# Altium schematic symbol library mylib.SchLib: 96 symbols
Pins are listed as number, name and electrical type; pins without a type are passive.

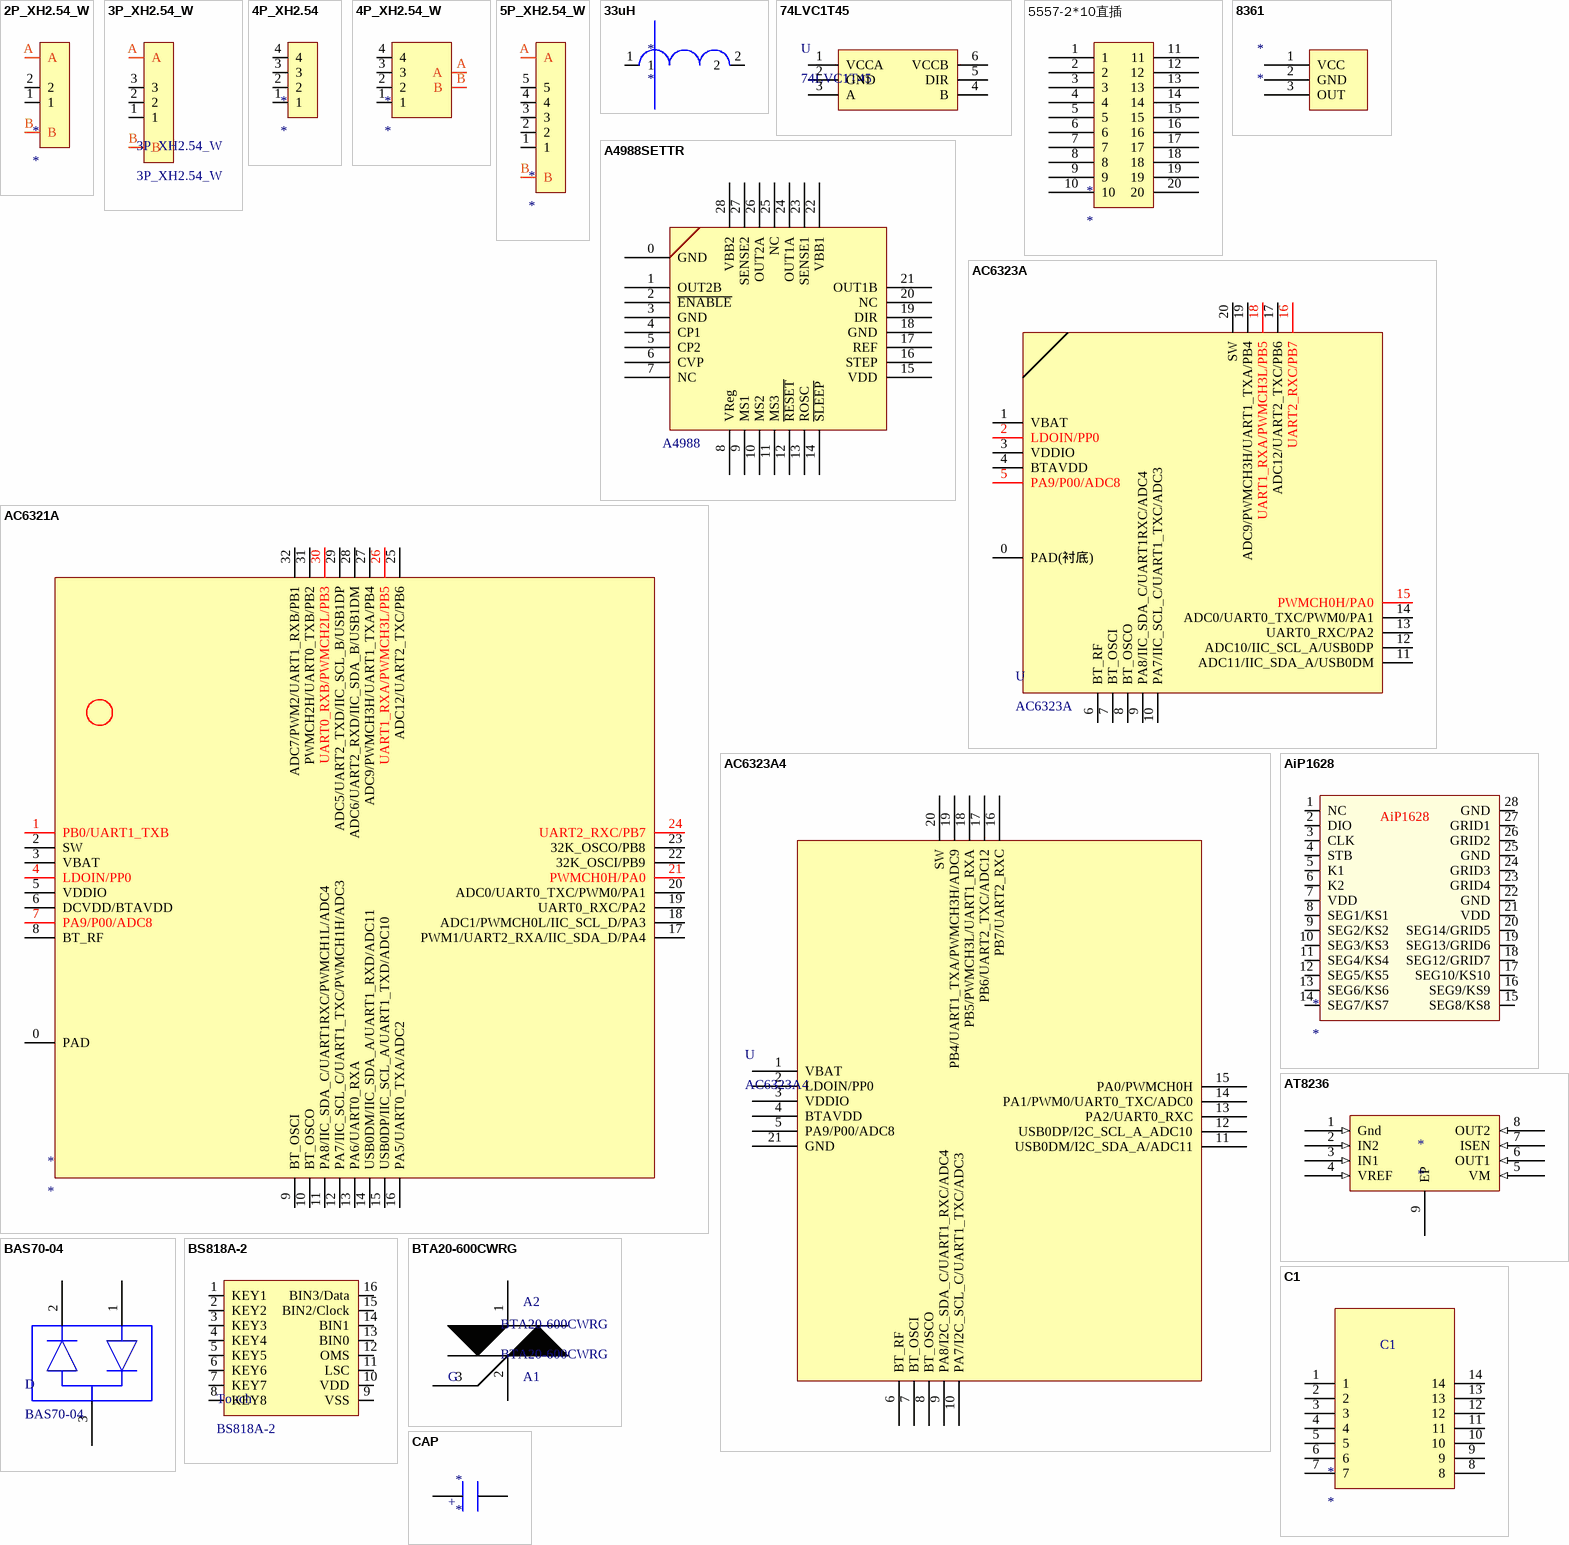
[diagram p0: symbols 2P_XH2.54_W to CAP]

## 2P_XH2.54_W
designator *
pins: 1, 2, A, B

## 3P_XH2.54_W
designator 3P_XH2.54_W
pins: 1, 2, 3, A, B

## 4P_XH2.54
designator *
pins: 1, 2, 3, 4

## 4P_XH2.54_W
designator *
pins: 1, 2, 3, 4, A, B

## 5P_XH2.54_W
designator *
pins: 1, 2, 3, 4, 5, A, B

## 33uH
designator *
pins: 1, 2

## 74LVC1T45
designator U
pins: 1 VCCA, 2 GND, 3 A, 4 B, 5 DIR, 6 VCCB

## 5557-2*10直插
designator *
pins: 1, 2, 3, 4, 5, 6, 7, 8, 9, 10, 11, 12, 13, 14, 15, 16, 17, 18, 19, 20

## 8361
designator *
pins: 1 VCC, 2 GND, 3 OUT

## A4988SETTR
designator ?, comment A4988
pins: 0 GND, 1 OUT2B, 2 ~{ENABLE}, 3 GND, 4 CP1, 5 CP2, 6 CVP, 7 NC, 8 VReg, 9 MS1, 10 MS2, 11 MS3, 12 ~{RESET}, 13 ROSC, 14 ~{SLEEP}, 15 VDD, 16 STEP, 17 REF, 18 GND, 19 DIR, 20 NC, 21 OUT1B, 22 VBB1, 23 SENSE1, 24 OUT1A, 25 NC, 26 OUT2A, 27 SENSE2, 28 VBB2

## AC6321A
designator *
pins: 0 PAD, 1 PB0/UART1_TXB, 2 SW, 3 VBAT, 4 LDOIN/PP0, 5 VDDIO, 6 DCVDD/BTAVDD, 7 PA9/P00/ADC8, 8 BT_RF, 9 BT_OSCI, 10 BT_OSCO, 11 PA8/IIC_SDA_C/UART1RXC/PWMCH1L/ADC4, 12 PA7/IIC_SCL_C/UART1_TXC/PWMCH1H/ADC3, 13 PA6/UART0_RXA, 14 USB0DM/IIC_SDA_A/UART1_RXD/ADC11, 15 USB0DP/IIC_SCL_A/UART1_TXD/ADC10, 16 PA5/UART0_TXA/ADC2, 17 PWM1/UART2_RXA/IIC_SDA_D/PA4, 18 ADC1/PWMCH0L/IIC_SCL_D/PA3, 19 UART0_RXC/PA2, 20 ADC0/UART0_TXC/PWM0/PA1, 21 PWMCH0H/PA0, 22 32K_OSCI/PB9, 23 32K_OSCO/PB8, 24 UART2_RXC/PB7, 25 ADC12/UART2_TXC/PB6, 26 UART1_RXA/PWMCH3L/PB5, 27 ADC9/PWMCH3H/UART1_TXA/PB4, 28 ADC6/UART2_RXD/IIC_SDA_B/USB1DM, 29 ADC5/UART2_TXD/IIC_SCL_B/USB1DP, 30 UART0_RXB/PWMCH2L/PB3, 31 PWMCH2H/UART0_TXB/PB2, 32 ADC7/PWM2/UART1_RXB/PB1

## AC6323A
designator U
pins: 0 PAD(衬底), 1 VBAT, 2 LDOIN/PP0, 3 VDDIO, 4 BTAVDD, 5 PA9/P00/ADC8, 6 BT_RF, 7 BT_OSCI, 8 BT_OSCO, 9 PA8/IIC_SDA_C/UART1RXC/ADC4, 10 PA7/IIC_SCL_C/UART1_TXC/ADC3, 11 ADC11/IIC_SDA_A/USB0DM, 12 ADC10/IIC_SCL_A/USB0DP, 13 UART0_RXC/PA2, 14 ADC0/UART0_TXC/PWM0/PA1, 15 PWMCH0H/PA0, 16 UART2_RXC/PB7, 17 ADC12/UART2_TXC/PB6, 18 UART1_RXA/PWMCH3L/PB5, 19 ADC9/PWMCH3H/UART1_TXA/PB4, 20 SW

## AC6323A4
designator U
pins: 1 VBAT, 2 LDOIN/PP0, 3 VDDIO, 4 BTAVDD, 5 PA9/P00/ADC8, 6 BT_RF, 7 BT_OSCI, 8 BT_OSCO, 9 PA8/I2C_SDA_C/UART1_RXC/ADC4, 10 PA7/I2C_SCL_C/UART1_TXC/ADC3, 11 USB0DM/I2C_SDA_A/ADC11, 12 USB0DP/I2C_SCL_A_ADC10, 13 PA2/UART0_RXC, 14 PA1/PWM0/UART0_TXC/ADC0, 15 PA0/PWMCH0H, 16 PB7/UART2_RXC, 17 PB6/UART2_TXC/ADC12, 18 PB5/PWMCH3L/UART1_RXA, 19 PB4/UART1_TXA/PWMCH3H/ADC9, 20 SW, 21 GND "衬底"

## AiP1628
designator *
pins: 1 NC, 2 DIO, 3 CLK, 4 STB, 5 K1, 6 K2, 7 VDD, 8 SEG1/KS1, 9 SEG2/KS2, 10 SEG3/KS3, 11 SEG4/KS4, 12 SEG5/KS5, 13 SEG6/KS6, 14 SEG7/KS7, 15 SEG8/KS8, 16 SEG9/KS9, 17 SEG10/KS10, 18 SEG12/GRID7, 19 SEG13/GRID6, 20 SEG14/GRID5, 21 VDD, 22 GND, 23 GRID4, 24 GRID3, 25 GND, 26 GRID2, 27 GRID1, 28 GND

## AT8236
designator *
pins: 1 Gnd (in), 2 IN2 (in), 3 IN1 (in), 4 VREF (in), 5 VM (in), 6 OUT1 (in), 7 ISEN (in), 8 OUT2 (in), 9 EP

## BAS70-04
designator D
pins: 1, 2, 3

## BS818A-2
designator Touch
pins: 1 KEY1, 2 KEY2, 3 KEY3, 4 KEY4, 5 KEY5, 6 KEY6, 7 KEY7, 8 KEY8, 9 VSS, 10 VDD, 11 LSC, 12 OMS, 13 BIN0, 14 BIN1, 15 BIN2/Clock, 16 BIN3/Data

## BTA20-600CWRG
designator BTA20-600CWRG
pins: 1 A2, 2 A1, 3 G

## C1
designator *
pins: 1, 2, 3, 4, 5, 6, 7, 8, 9, 10, 11, 12, 13, 14

## CAP
designator *
pins: 1, 2
text: +

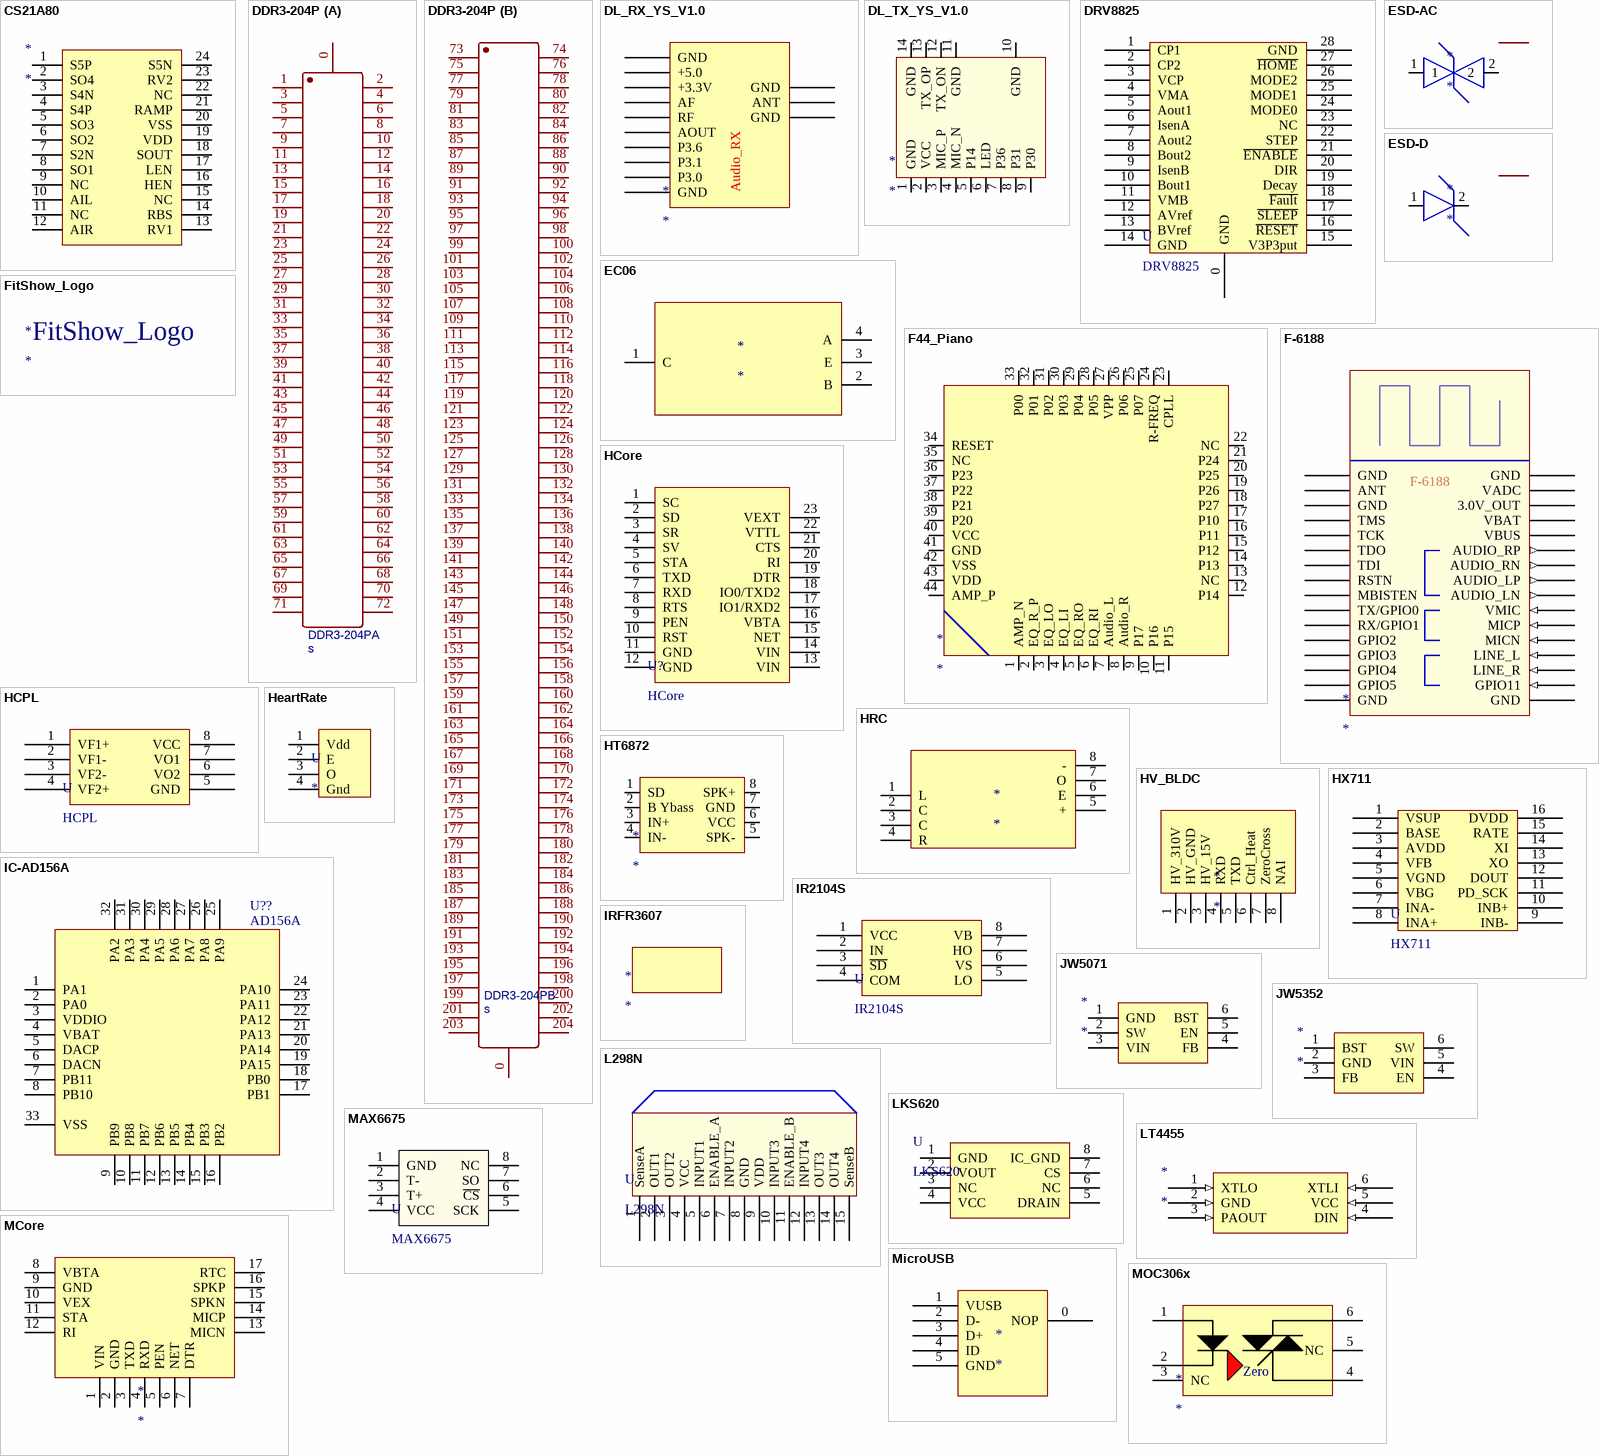
[diagram p1: symbols CS21A80 to MOC306x]

## CS21A80
designator *
pins: 1 S5P, 2 SO4, 3 S4N, 4 S4P, 5 SO3, 6 SO2, 7 S2N, 8 SO1, 9 NC, 10 AIL, 11 NC, 12 AIR, 13 RV1, 14 RBS, 15 NC, 16 HEN, 17 LEN, 18 SOUT, 19 VDD, 20 VSS, 21 RAMP, 22 NC, 23 RV2, 24 S5N

## DDR3-204P
designator DDR3-204P, comment s
BOM_Manufacturer: TE Connectivity; BOM_Manufacturer Part: 2013289-1; subpart_no: 1; BOM_Supplier: LCSC; BOM_Supplier Part: C305916; spicePre: C
footprint CHA-CARD-66.8X8.2-204
part A pins: 0, 1, 2, 3, 4, 5, 6, 7, 8, 9, 10, 11, 12, 13, 14, 15, 16, 17, 18, 19, 20, 21, 22, 23, 24, 25, 26, 27, 28, 29, 30, 31, 32, 33, 34, 35, 36, 37, 38, 39, 40, 41, 42, 43, 44, 45, 46, 47, 48, 49, 50, 51, 52, 53, 54, 55, 56, 57, 58, 59, 60, 61, 62, 63, 64, 65, 66, 67, 68, 69, 70, 71, 72
part B pins: 0, 73, 74, 75, 76, 77, 78, 79, 80, 81, 82, 83, 84, 85, 86, 87, 88, 89, 90, 91, 92, 93, 94, 95, 96, 97, 98, 99, 100, 101, 102, 103, 104, 105, 106, 107, 108, 109, 110, 111, 112, 113, 114, 115, 116, 117, 118, 119, 120, 121, 122, 123, 124, 125, 126, 127, 128, 129, 130, 131, 132, 133, 134, 135, 136, 137, 138, 139, 140, 141, 142, 143, 144, 145, 146, 147, 148, 149, 150, 151, 152, 153, 154, 155, 156, 157, 158, 159, 160, 161, 162, 163, 164, 165, 166, 167, 168, 169, 170, 171, 172, 173, 174, 175, 176, 177, 178, 179, 180, 181, 182, 183, 184, 185, 186, 187, 188, 189, 190, 191, 192, 193, 194, 195, 196, 197, 198, 199, 200, 201, 202, 203, 204

## DL_RX_YS_V1.0
designator *
pins: 1 GND, 2 +5.0, 3 +3.3V, 4 AF, 5 RF, 6 AOUT, 7 P3.6, 8 P3.1, 9 P3.0, 10 GND, 11 GND, 12 ANT, 13 GND
text: Audio_RX

## DL_TX_YS_V1.0
designator *
pins: 1 GND, 2 VCC, 3 MIC_P, 4 MIC_N, 5 P14, 6 LED, 7 P36, 8 P31, 9 P30, 10 GND, 11 GND, 12 TX_ON, 13 TX_OP, 14 GND

## DRV8825
designator U
pins: 0 GND, 1 CP1, 2 CP2, 3 VCP, 4 VMA, 5 Aout1, 6 IsenA, 7 Aout2, 8 Bout2, 9 IsenB, 10 Bout1, 11 VMB, 12 AVref, 13 BVref, 14 GND, 15 V3P3put, 16 ~{RESET}, 17 ~{SLEEP}, 18 ~{F}~{ault}, 19 Decay, 20 DIR, 21 ~{ENABLE}, 22 STEP, 23 NC, 24 MODE0, 25 MODE1, 26 MODE2, 27 ~{HOME}, 28 GND

## EC06
designator *
pins: 1 C, 2 B, 3 E, 4 A

## ESD-AC
designator *
pins: 1, 2

## ESD-D
designator *
pins: 1, 2

## F44_Piano
designator *
pins: 1 AMP_N, 2 EQ_R_P, 3 EQ_LO, 4 EQ_LI, 5 EQ_RO, 6 EQ_RI, 7 Audio_L, 8 Audio_R, 9 P17, 10 P16, 11 P15, 12 P14, 13 NC, 14 P13, 15 P12, 16 P11, 17 P10, 18 P27, 19 P26, 20 P25, 21 P24, 22 NC, 23 CPLL, 24 R-FREQ, 25 P07, 26 P06, 27 VPP, 28 P05, 29 P04, 30 P03, 31 P02, 32 P01, 33 P00, 34 RESET, 35 NC, 36 P23, 37 P22, 38 P21, 39 P20, 40 VCC, 41 GND, 42 VSS, 43 VDD, 44 AMP_P

## F-6188
designator *
pins: 1 GND, 2 ANT, 3 GND, 4 TMS, 5 TCK, 6 TDO, 7 TDI, 8 RSTN, 9 MBISTEN, 10 TX/GPIO0, 11 RX/GPIO1, 12 GPIO2, 13 GPIO3, 14 GPIO4, 15 GPIO5, 16 GND, 17 GND, 18 GPIO11 (in), 19 LINE_R (in), 20 LINE_L (in), 21 MICN (in), 22 MICP (in), 23 VMIC (in), 24 AUDIO_LN (out), 25 AUDIO_LP (out), 26 AUDIO_RN (out), 27 AUDIO_RP (out), 28 VBUS, 29 VBAT, 30 3.0V_OUT, 31 VADC, 32 GND

## FitShow_Logo
designator *

## HCore
designator U?
pins: 1 SC, 2 SD, 3 SR, 4 SV, 5 STA, 6 TXD, 7 RXD, 8 RTS, 9 PEN, 10 RST, 11 GND, 12 GND, 13 VIN, 14 VIN, 15 NET, 16 VBTA, 17 IO1/RXD2, 18 IO0/TXD2, 19 DTR, 20 RI, 21 CTS, 22 VTTL, 23 VEXT

## HCPL
designator U
pins: 1 VF1+, 2 VF1-, 3 VF2-, 4 VF2+, 5 GND, 6 VO2, 7 VO1, 8 VCC

## HeartRate
designator U
pins: 1 Vdd, 2 E, 3 O, 4 Gnd

## HRC
designator *
pins: 1 L, 2 C, 3 C, 4 R, 5 +, 6 E, 7 O, 8 -

## HT6872
designator *
pins: 1 SD, 2 B Ybass, 3 IN+, 4 IN-, 5 SPK-, 6 VCC, 7 GND, 8 SPK+

## HV_BLDC
designator *
System: Connector
footprint HV_BLDC_GoldFinger
footprint HV_BLDC_Slot
pins: 1 HV_310V, 2 HV_GND, 3 HV_15V, 4 RXD, 5 TXD, 6 Ctrl_Heat, 7 ZeroCross, 8 NAI

## HX711
designator U
pins: 1 VSUP, 2 BASE, 3 AVDD, 4 VFB, 5 VGND, 6 VBG, 7 INA-, 8 INA+, 9 INB-, 10 INB+, 11 PD_SCK, 12 DOUT, 13 XO, 14 XI, 15 RATE, 16 DVDD

## IC-AD156A
designator U??, comment AD156A
JieLi 32-bit MCU, QFN32
footprint QFN32
pins: 1 PA1, 2 PA0, 3 VDDIO, 4 VBAT, 5 DACP, 6 DACN, 7 PB11, 8 PB10, 9 PB9, 10 PB8, 11 PB7, 12 PB6, 13 PB5, 14 PB4, 15 PB3, 16 PB2, 17 PB1, 18 PB0, 19 PA15, 20 PA14, 21 PA13, 22 PA12, 23 PA11, 24 PA10, 25 PA9, 26 PA8, 27 PA7, 28 PA6, 29 PA5, 30 PA4, 31 PA3, 32 PA2, 33 VSS

## IR2104S
designator U
pins: 1 VCC, 2 IN, 3 ~{SD}, 4 COM, 5 LO, 6 VS, 7 HO, 8 VB

## IRFR3607
designator *

## JW5071
designator *
pins: 1 GND, 2 SW, 3 VIN, 4 FB, 5 EN, 6 BST

## JW5352
designator *
pins: 1 BST, 2 GND, 3 FB, 4 EN, 5 VIN, 6 SW

## L298N
designator U
pins: 1 SenseA, 2 OUT1, 3 OUT2, 4 VCC, 5 INPUT1, 6 ENABLE_A, 7 INPUT2, 8 GND, 9 VDD, 10 INPUT3, 11 ENABLE_B, 12 INPUT4, 13 OUT3, 14 OUT4, 15 SenseB

## LKS620
designator U
pins: 1 GND, 2 VOUT, 3 NC, 4 VCC, 5 DRAIN, 6 NC, 7 CS, 8 IC_GND

## LT4455
designator *
pins: 1 XTLO (in), 2 GND (in), 3 PAOUT (in), 4 DIN (in), 5 VCC (in), 6 XTLI (in)

## MAX6675
designator U
pins: 1 GND, 2 T-, 3 T+, 4 VCC, 5 SCK, 6 ~{CS}, 7 SO, 8 NC

## MCore
designator *
pins: 1 VIN, 2 GND, 3 TXD, 4 RXD, 5 PEN, 6 NET, 7 DTR, 8 VBTA, 9 GND, 10 VEX, 11 STA, 12 RI, 13 MICN, 14 MICP, 15 SPKN, 16 SPKP, 17 RTC

## MicroUSB
designator *
footprint microusb (Connector; USB1.1, Type B, SM; 4 Position; Right Angle)
pins: 0 NOP, 1 VUSB, 2 D-, 3 D+, 4 ID, 5 GND

## MOC306x
designator *
pins: 1 ANODE, 2 CATHODE, 3 NC, 4 TERM, 5 NC, 6 TERM
text: Zero

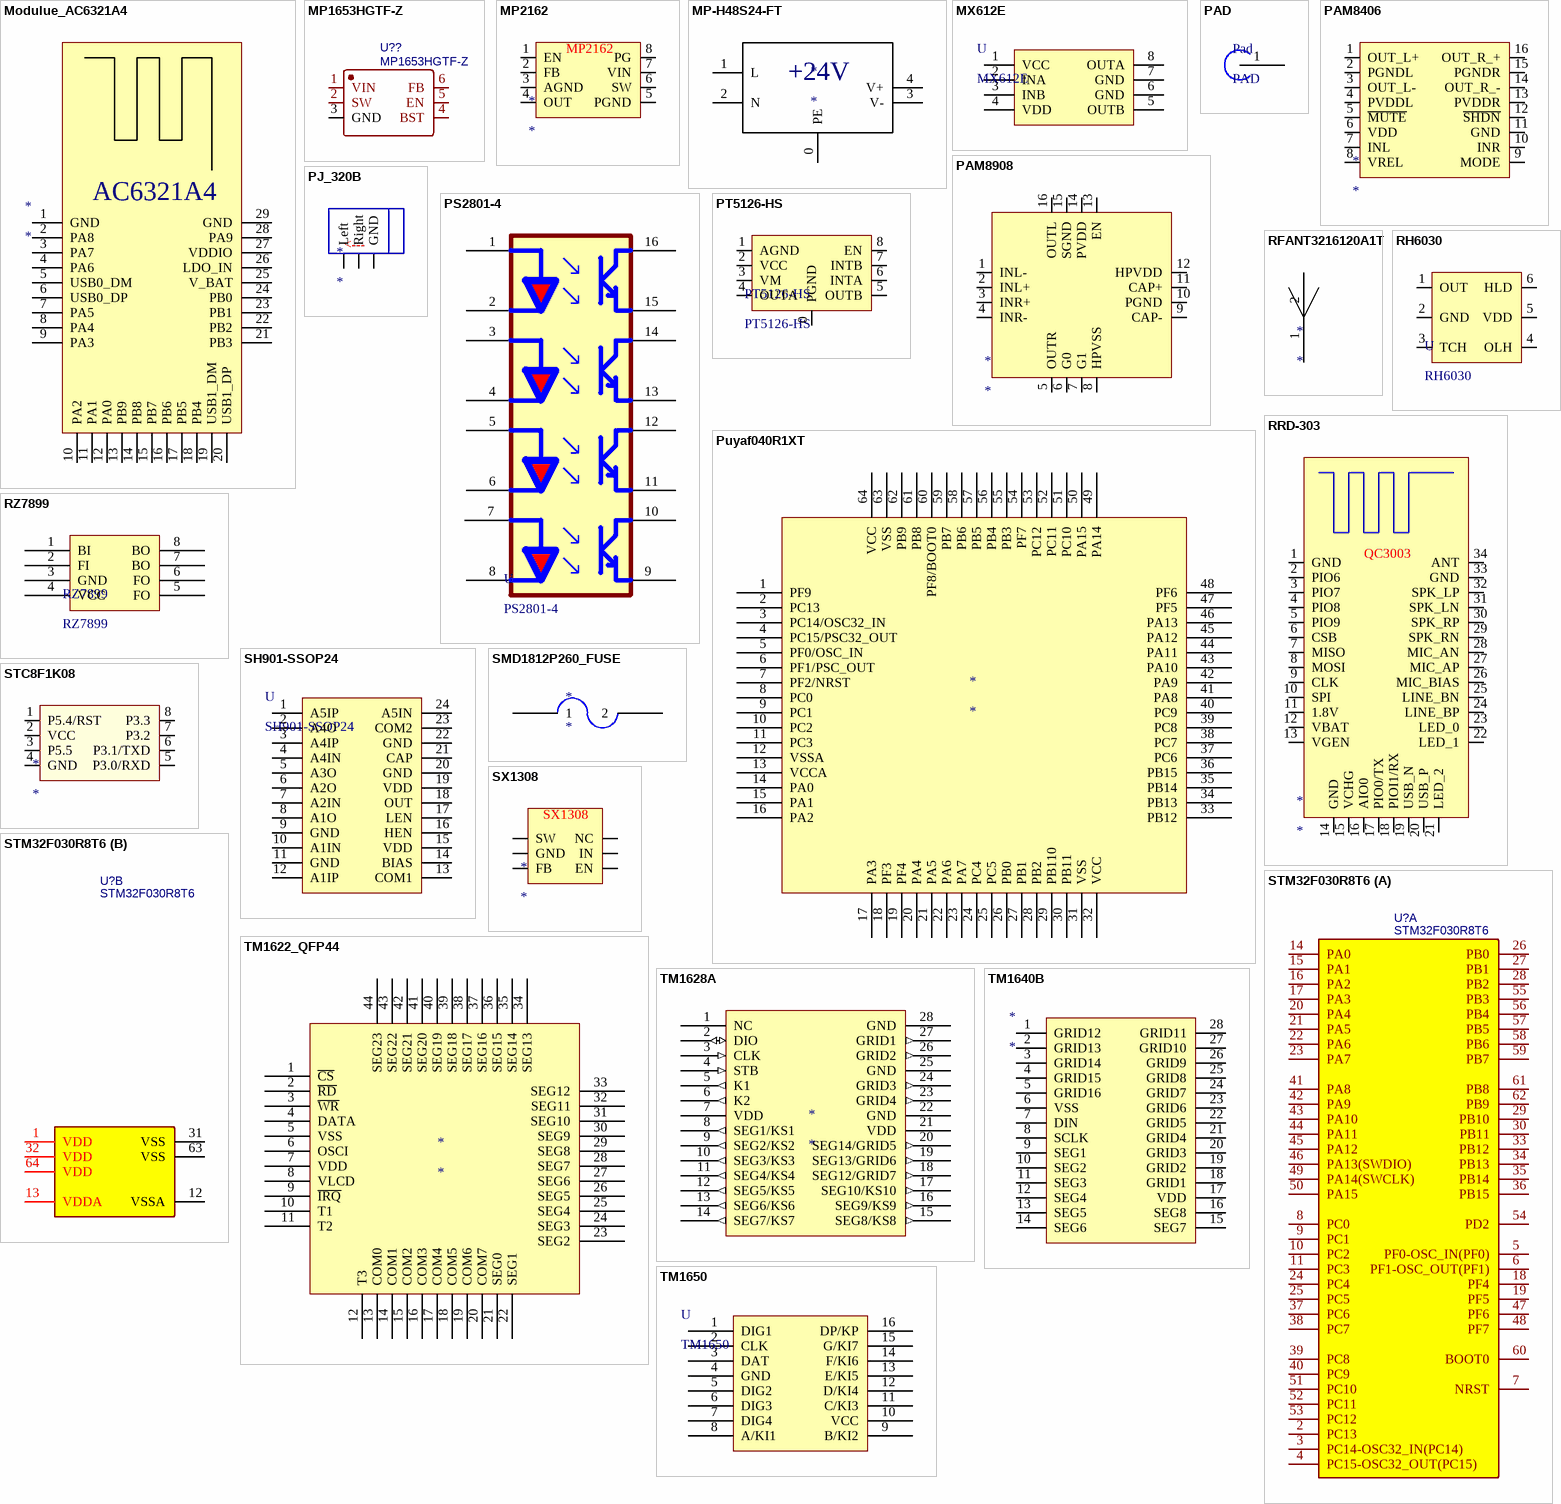
[diagram p2: symbols Modulue_AC6321A4 to TM1650]

## Modulue_AC6321A4
designator *
pins: 1 GND, 2 PA8, 3 PA7, 4 PA6, 5 USB0_DM, 6 USB0_DP, 7 PA5, 8 PA4, 9 PA3, 10 PA2, 11 PA1, 12 PA0, 13 PB9, 14 PB8, 15 PB7, 16 PB6, 17 PB5, 18 PB4, 19 USB1_DM, 20 USB1_DP, 21 PB3, 22 PB2, 23 PB1, 24 PB0, 25 V_BAT, 26 LDO_IN, 27 VDDIO, 28 PA9, 29 GND
text: AC6321A4

## MP1653HGTF-Z
designator U??
BOM_Manufacturer: MPS; BOM_Supplier: LCSC; BOM_Manufacturer Part: MP1653HGTF-Z; BOM_Supplier Part: C132613; spicePre: U
footprint SOT-563
pins: 1 VIN, 2 SW, 3 GND, 4 BST, 5 EN, 6 FB

## MP2162
designator *
pins: 1 EN, 2 FB, 3 AGND, 4 OUT, 5 PGND, 6 SW, 7 VIN, 8 PG

## MP-H48S24-FT
designator *
pins: 0 PE, 1 L, 2 N, 3 V-, 4 V+
text: +24V

## MX612E
designator U
pins: 1 VCC, 2 INA, 3 INB, 4 VDD, 5 OUTB, 6 GND, 7 GND, 8 OUTA

## PAD
designator Pad
pins: 1 pad

## PAM8406
designator *
pins: 1 OUT_L+, 2 PGNDL, 3 OUT_L-, 4 PVDDL, 5 ~{MUTE}, 6 VDD, 7 INL, 8 VREL, 9 MODE, 10 INR, 11 GND, 12 ~{SHDN}, 13 PVDDR, 14 OUT_R_-, 15 PGNDR, 16 OUT_R_+

## PAM8908
designator *
pins: 1 INL-, 2 INL+, 3 INR+, 4 INR-, 5 OUTR, 6 G0, 7 G1, 8 HPVSS, 9 CAP-, 10 PGND, 11 CAP+, 12 HPVDD, 13 EN, 14 PVDD, 15 SGND, 16 OUTL

## PJ_320B
designator *
pins: 1 GND, 2 Right, 3 Left
text: <---

## PS2801-4
designator U
pins: 1, 2, 3, 4, 5, 6, 7, 8, 9, 10, 11, 12, 13, 14, 15, 16

## PT5126-HS
designator PT5126-HS
pins: 0 PGND, 1 AGND, 2 VCC, 3 VM, 4 OUTA, 5 OUTB, 6 INTA, 7 INTB, 8 EN

## Puyaf040R1XT
designator *
pins: 1 PF9, 2 PC13, 3 PC14/OSC32_IN, 4 PC15/PSC32_OUT, 5 PF0/OSC_IN, 6 PF1/PSC_OUT, 7 PF2/NRST, 8 PC0, 9 PC1, 10 PC2, 11 PC3, 12 VSSA, 13 VCCA, 14 PA0, 15 PA1, 16 PA2, 17 PA3, 18 PF3, 19 PF4, 20 PA4, 21 PA5, 22 PA6, 23 PA7, 24 PC4, 25 PC5, 26 PB0, 27 PB1, 28 PB2, 29 PB110, 30 PB11, 31 VSS, 32 VCC, 33 PB12, 34 PB13, 35 PB14, 36 PB15, 37 PC6, 38 PC7, 39 PC8, 40 PC9, 41 PA8, 42 PA9, 43 PA10, 44 PA11, 45 PA12, 46 PA13, 47 PF5, 48 PF6, 49 PA14, 50 PA15, 51 PC10, 52 PC11, 53 PC12, 54 PF7, 55 PB3, 56 PB4, 57 PB5, 58 PB6, 59 PB7, 60 PF8/BOOT0, 61 PB8, 62 PB9, 63 VSS, 64 VCC

## RFANT3216120A1T
designator *
pins: 1, 2

## RH6030
designator U
pins: 1 OUT, 2 GND, 3 TCH, 4 OLH, 5 VDD, 6 HLD

## RRD-303
designator *
pins: 1 GND, 2 PIO6, 3 PIO7, 4 PIO8, 5 PIO9, 6 CSB, 7 MISO, 8 MOSI, 9 CLK, 10 SPI, 11 1.8V, 12 VBAT, 13 VGEN, 14 GND, 15 VCHG, 16 AIO0, 17 PIO0/TX, 18 PIOI1/RX, 19 USB_N, 20 USB_P, 21 LED_2, 22 LED_1, 23 LED_0, 24 LINE_BP, 25 LINE_BN, 26 MIC_BIAS, 27 MIC_AP, 28 MIC_AN, 29 SPK_RN, 30 SPK_RP, 31 SPK_LN, 32 SPK_LP, 33 GND, 34 ANT
text: QC3003

## RZ7899
designator RZ7899
pins: 1 BI, 2 FI, 3 GND, 4 VCC, 5 FO, 6 FO, 7 BO, 8 BO

## SH901-SSOP24
designator U
pins: 1 A5IP, 2 A4O, 3 A4IP, 4 A4IN, 5 A3O, 6 A2O, 7 A2IN, 8 A1O, 9 GND, 10 A1IN, 11 GND, 12 A1IP, 13 COM1, 14 BIAS, 15 VDD, 16 HEN, 17 LEN, 18 OUT, 19 VDD, 20 GND, 21 CAP, 22 GND, 23 COM2, 24 A5IN

## SMD1812P260_FUSE
designator *
pins: 1, 2

## STC8F1K08
designator *
pins: 1 P5.4/RST, 2 VCC, 3 P5.5, 4 GND, 5 P3.0/RXD, 6 P3.1/TXD, 7 P3.2, 8 P3.3

## STM32F030R8T6
designator U?
BOM_Manufacturer: ST; subpart_no: 1; tags: STM32; BOM_Supplier Part: C39105; BOM_Supplier: LCSC; BOM_Manufacturer Part: STM32F030R8T6; image: http://image.lceda.cn/szlcsc/C39105.jpg; spicePre: U
footprint LQFP-64_10X10X05P
part A pins: 2 PC13, 3 PC14-OSC32_IN(PC14), 4 PC15-OSC32_OUT(PC15), 5 PF0-OSC_IN(PF0), 6 PF1-OSC_OUT(PF1), 7 NRST, 8 PC0, 9 PC1, 10 PC2, 11 PC3, 14 PA0, 15 PA1, 16 PA2, 17 PA3, 18 PF4, 19 PF5, 20 PA4, 21 PA5, 22 PA6, 23 PA7, 24 PC4, 25 PC5, 26 PB0, 27 PB1, 28 PB2, 29 PB10, 30 PB11, 33 PB12, 34 PB13, 35 PB14, 36 PB15, 37 PC6, 38 PC7, 39 PC8, 40 PC9, 41 PA8, 42 PA9, 43 PA10, 44 PA11, 45 PA12, 46 PA13(SWDIO), 47 PF6, 48 PF7, 49 PA14(SWCLK), 50 PA15, 51 PC10, 52 PC11, 53 PC12, 54 PD2, 55 PB3, 56 PB4, 57 PB5, 58 PB6, 59 PB7, 60 BOOT0, 61 PB8, 62 PB9
part B pins: 1 VDD, 12 VSSA, 13 VDDA, 31 VSS, 32 VDD, 63 VSS, 64 VDD

## SX1308
designator *
pins: 1 SW, 2 GND, 3 FB, 4 EN, 5 IN, 6 NC

## TM1622_QFP44
designator *
pins: 1 ~{CS}, 2 ~{RD}, 3 ~{WR}, 4 DATA, 5 VSS, 6 OSCI, 7 VDD, 8 VLCD, 9 ~{IRQ}, 10 T1, 11 T2, 12 T3, 13 COM0, 14 COM1, 15 COM2, 16 COM3, 17 COM4, 18 COM5, 19 COM6, 20 COM7, 21 SEG0, 22 SEG1, 23 SEG2, 24 SEG3, 25 SEG4, 26 SEG5, 27 SEG6, 28 SEG7, 29 SEG8, 30 SEG9, 31 SEG10, 32 SEG11, 33 SEG12, 34 SEG13, 35 SEG14, 36 SEG15, 37 SEG16, 38 SEG17, 39 SEG18, 40 SEG19, 41 SEG20, 42 SEG21, 43 SEG22, 44 SEG23

## TM1628A
designator *
footprint SSOP28_N (10.2*7.8*1.9mm(长宽高）)
pins: 1 NC (hiz), 2 DIO (io), 3 CLK (in), 4 STB (in), 5 K1 (out), 6 K2 (out), 7 VDD (power), 8 SEG1/KS1 (out), 9 SEG2/KS2 (out), 10 SEG3/KS3 (out), 11 SEG4/KS4 (out), 12 SEG5/KS5 (out), 13 SEG6/KS6 (out), 14 SEG7/KS7 (out), 15 SEG8/KS8 (out), 16 SEG9/KS9 (out), 17 SEG10/KS10 (out), 18 SEG12/GRID7 (out), 19 SEG13/GRID6 (out), 20 SEG14/GRID5 (out), 21 VDD (power), 22 GND (power), 23 GRID4 (out), 24 GRID3 (out), 25 GND (power), 26 GRID2 (out), 27 GRID1 (out), 28 GND (power)

## TM1640B
designator *
pins: 1 GRID12, 2 GRID13, 3 GRID14, 4 GRID15, 5 GRID16, 6 VSS, 7 DIN, 8 SCLK, 9 SEG1, 10 SEG2, 11 SEG3, 12 SEG4, 13 SEG5, 14 SEG6, 15 SEG7, 16 SEG8, 17 VDD, 18 GRID1, 19 GRID2, 20 GRID3, 21 GRID4, 22 GRID5, 23 GRID6, 24 GRID7, 25 GRID8, 26 GRID9, 27 GRID10, 28 GRID11

## TM1650
designator U
pins: 1 DIG1 (hiz), 2 CLK (hiz), 3 DAT (hiz), 4 GND (hiz), 5 DIG2 (hiz), 6 DIG3 (hiz), 7 DIG4 (hiz), 8 A/KI1 (hiz), 9 B/KI2 (hiz), 10 VCC (hiz), 11 C/KI3 (hiz), 12 D/KI4 (hiz), 13 E/KI5 (hiz), 14 F/KI6 (hiz), 15 G/KI7 (hiz), 16 DP/KP (hiz)

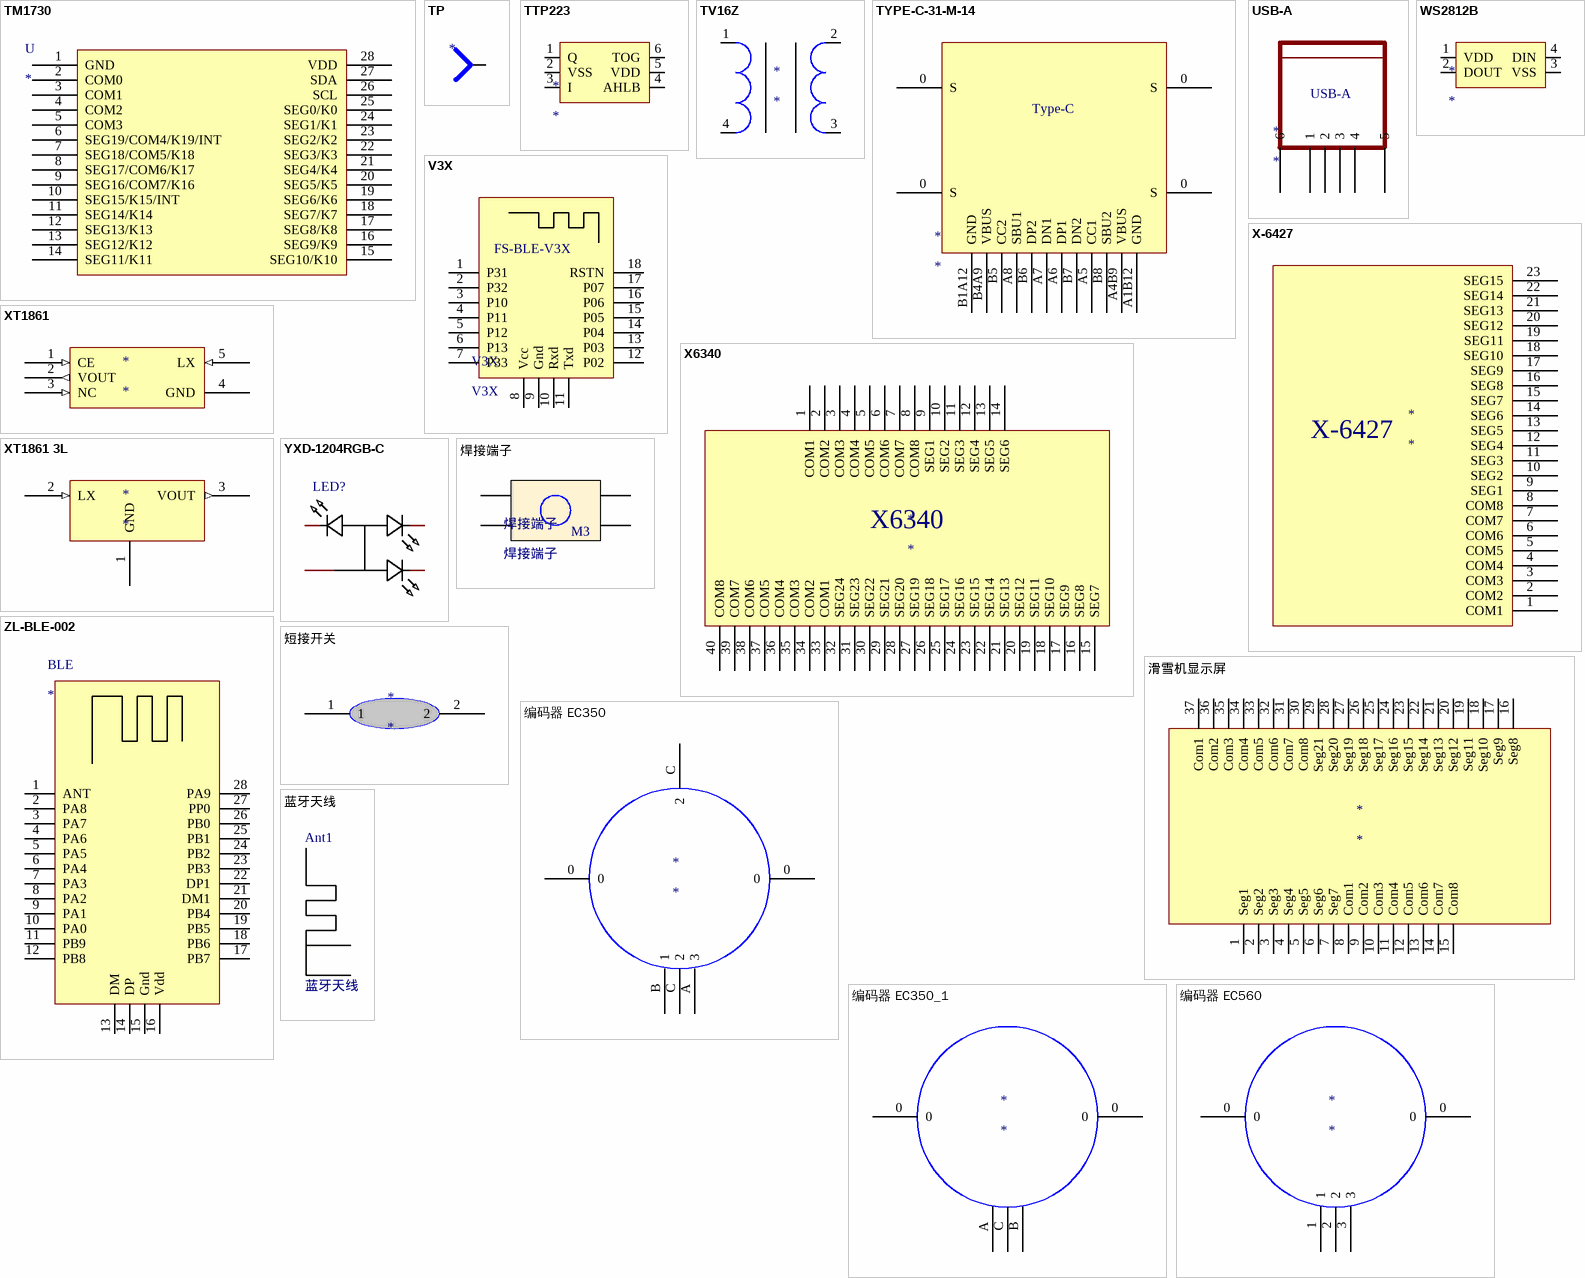
[diagram p3: symbols TM1730 to 蓝牙天线]

## TM1730
designator U
pins: 1 GND, 2 COM0, 3 COM1, 4 COM2, 5 COM3, 6 SEG19/COM4/K19/INT, 7 SEG18/COM5/K18, 8 SEG17/COM6/K17, 9 SEG16/COM7/K16, 10 SEG15/K15/INT, 11 SEG14/K14, 12 SEG13/K13, 13 SEG12/K12, 14 SEG11/K11, 15 SEG10/K10, 16 SEG9/K9, 17 SEG8/K8, 18 SEG7/K7, 19 SEG6/K6, 20 SEG5/K5, 21 SEG4/K4, 22 SEG3/K3, 23 SEG2/K2, 24 SEG1/K1, 25 SEG0/K0, 26 SCL, 27 SDA, 28 VDD

## TP
designator *  (value not drawn)
pins: 1

## TTP223
designator *
pins: 1 Q, 2 VSS, 3 I, 4 AHLB, 5 VDD, 6 TOG

## TV16Z
designator *
pins: 1, 2, 3, 4

## TYPE-C-31-M-14
designator *
pins: 0 S, 0 S, 0 S, 0 S, A1B12 GND, A4B9 VBUS, A5 CC1, A6 DP1, A7 DN1, A8 SBU1, B1A12 GND, B4A9 VBUS, B5 CC2, B6 DP2, B7 DN2, B8 SBU2
text: Type-C

## USB-A
designator *
pins: 1, 2, 3, 4, 5, 6

## V3X
designator V3X
pins: 1 P31, 2 P32, 3 P10, 4 P11, 5 P12, 6 P13, 7 P33, 8 Vcc, 9 Gnd, 10 Rxd, 11 Txd, 12 P02, 13 P03, 14 P04, 15 P05, 16 P06, 17 P07, 18 RSTN
text: FS-BLE-V3X

## WS2812B
designator *
pins: 1 VDD, 2 DOUT, 3 VSS, 4 DIN

## X6340
designator *
pins: 1 COM1, 2 COM2, 3 COM3, 4 COM4, 5 COM5, 6 COM6, 7 COM7, 8 COM8, 9 SEG1, 10 SEG2, 11 SEG3, 12 SEG4, 13 SEG5, 14 SEG6, 15 SEG7, 16 SEG8, 17 SEG9, 18 SEG10, 19 SEG11, 20 SEG12, 21 SEG13, 22 SEG14, 23 SEG15, 24 SEG16, 25 SEG17, 26 SEG18, 27 SEG19, 28 SEG20, 29 SEG21, 30 SEG22, 31 SEG23, 32 SEG24, 33 COM1, 34 COM2, 35 COM3, 36 COM4, 37 COM5, 38 COM6, 39 COM7, 40 COM8

## X-6427
designator *
pins: 1 COM1, 2 COM2, 3 COM3, 4 COM4, 5 COM5, 6 COM6, 7 COM7, 8 COM8, 9 SEG1, 10 SEG2, 11 SEG3, 12 SEG4, 13 SEG5, 14 SEG6, 15 SEG7, 16 SEG8, 17 SEG9, 18 SEG10, 19 SEG11, 20 SEG12, 21 SEG13, 22 SEG14, 23 SEG15

## XT1861
designator *
pins: 1 CE (in), 2 VOUT (out), 3 NC (in), 4 GND (power), 5 LX (in)

## XT1861 3L
designator *
pins: 1 GND (power), 2 LX (in), 3 VOUT (out)

## YXD-1204RGB-C
designator LED?  (value not drawn)
Add into BOM: yes; Name: YXD-1204RGB-C; Symbol: YXD-1204RGB-C; Device: YXD-1204RGB-C; LCSC Part Name: YXD-1204RGB-C; Supplier Part: C9900001072; Manufacturer Part: YXD-1204RGB-C; Supplier Footprint: RGB_LED_COMA; JLCPCB Part Class: 扩展库; Datasheet: https://atta.szlcsc.comnull; Supplier: LCSC; Convert to PCB: yes
footprint LED-SMD_YXD-1204RGB-C
3D model LED-SMD_YXD-1204RGB-C
pins: 1 K, 2 K, 3, 4 K

## ZL-BLE-002
designator BLE
pins: 1 ANT, 2 PA8, 3 PA7, 4 PA6, 5 PA5, 6 PA4, 7 PA3, 8 PA2, 9 PA1, 10 PA0, 11 PB9, 12 PB8, 13 DM, 14 DP, 15 Gnd, 16 Vdd, 17 PB7, 18 PB6, 19 PB5, 20 PB4, 21 DM1, 22 DP1, 23 PB3, 24 PB2, 25 PB1, 26 PB0, 27 PP0, 28 PA9

## 滑雪机显示屏
designator *
pins: 1 Seg1, 2 Seg2, 3 Seg3, 4 Seg4, 5 Seg5, 6 Seg6, 7 Seg7, 8 Com1, 9 Com2, 10 Com3, 11 Com4, 12 Com5, 13 Com6, 14 Com7, 15 Com8, 16 Seg8, 17 Seg9, 18 Seg10, 19 Seg11, 20 Seg12, 21 Seg13, 22 Seg14, 23 Seg15, 24 Seg16, 25 Seg17, 26 Seg18, 27 Seg19, 28 Seg20, 29 Seg21, 30 Com8, 31 Com7, 32 Com6, 33 Com5, 34 Com4, 35 Com3, 36 Com2, 37 Com1

## 焊接端子
designator 焊接端子
pins: 1, 2, 3, 4
text: M3

## 短接开关
designator *
pins: 1, 2

## 编码器 EC350
designator *
footprint 编码器EC350
pins: 0, 0, A 3, B 1, C 2, C 2

## 编码器 EC350_1
designator *
footprint 编码器EC350
pins: 0, 0, A 3, B 1, C 2

## 编码器 EC560
designator *
pins: 0, 0, 1, 2, 3

## 蓝牙天线
designator Ant1
footprint ANT_PIFA_2G4_1MM
pins: 1, 2